# EAGLE library part K64F (library CMPE-460-NXPCUP)
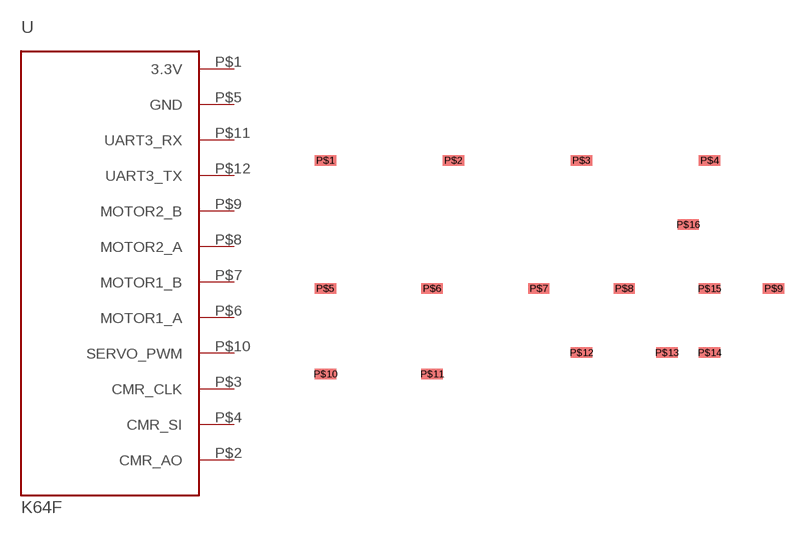
[diagram p0: symbol with the pads of K64F; footprint K64F]

Designator prefix -

## K64F  [K64F]
P$1  3.3V
P$2  CMR_AO
P$3  CMR_CLK
P$4  CMR_SI
P$5  GND
P$6  MOTOR1_A
P$7  MOTOR1_B
P$8  MOTOR2_A
P$9  MOTOR2_B
P$10  SERVO_PWM
P$11  UART3_RX
P$12  UART3_TX

## Footprint K64F (pad centres in mm)
smd 1.27 x 0.635: P$1 -10.16,5.08; P$2 -2.54,5.08; P$3 5.08,5.08; P$4 12.7,5.08; P$5 -10.16,-2.54; P$6 -3.81,-2.54; P$7 2.54,-2.54; P$8 7.62,-2.54; P$9 16.51,-2.54; P$10 -10.16,-7.62; P$11 -3.81,-7.62; P$12 5.08,-6.35; P$13 10.16,-6.35; P$14 12.7,-6.35; P$15 12.7,-2.54; P$16 11.43,1.27